# Altium schematic symbol library ALTAIR_PD_Converters.SchLib: 1 symbol
Pins are listed as number, name and electrical type; pins without a type are passive.

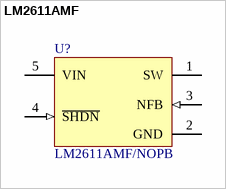
[diagram p0: symbol LM2611AMF]

## LM2611AMF
designator U?, comment LM2611AMF/NOPB
1.4MHz Cuk Converter, 5-pin SOT-23, Pb-Free; Manufacturer: Texas Instruments; PowerWise: N; CompType: Switcher; PackageTopMarking: S40A*XTT; ComponentLink1URL: http://www.ti.com/general/docs/lit/getliterature.tsp?genericPartNumber=LM2611&fileType=pdf; PackageDescription: Molded SOT-23, .115 x .063 x .040 in Body, 5 Lead, .0375 in Pitch; ComponentLink1Description: Datasheet URL; PackageReference: DBV0005A; PinCount: 5; RoHS: Y
footprint SOT23-5 MID DENSITY (SOT23, 5-Leads, Body 3.05x1.75mm, Pitch 0.95mm, IPC Medium Density)
pins: 1 SW (power), 2 GND (power), 3 NFB (in), 4 ~{SHDN} (in), 5 VIN (power)